# EAGLE library part 68711814022 (library Eagle_FPC_CONNECTOR_AND_FFC_CAB (rev18c))
WR-FPC 0.5mm SMT ZIF Horizontal Top Contact, 18 Pins=>Code : Con_FPC_ZIF_0.50_68711814022 <http://katalog.we-online.de/media/images/eican/Con_FPC_ZIF_0.50_6871xx14022_pf2.jpg> Details see: http://katalog.we-online.de/en/em/687_1xx_140_22 Created 2014-07-09, Karrer Zheng 2014 (C) Würth Elektronik
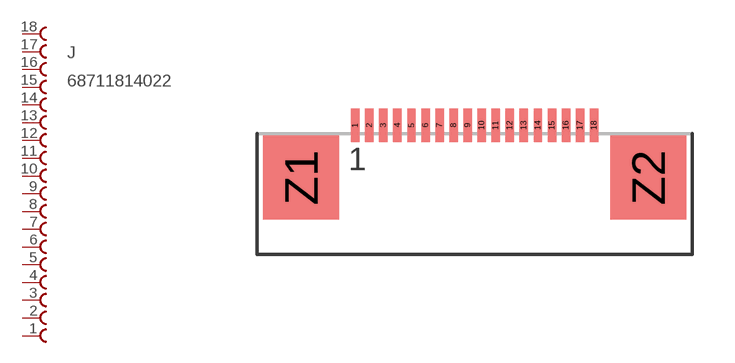
[diagram p23: symbol with the pads of 68711814022; footprint 68711814022]

Designator prefix J

## 68711814022  [68711814022]
1  18  pas
2  17  pas
3  16  pas
4  15  pas
5  14  pas
6  13  pas
7  12  pas
8  11  pas
9  10  pas
10  9  pas
11  8  pas
12  7  pas
13  6  pas
14  5  pas
15  4  pas
16  3  pas
17  2  pas
18  1  pas

## Footprint 68711814022 (pad centres in mm)
WR-FPC 0.5mm SMT ZIF Horizontal Top Contact, 18 Pins
smd 0.3 x 1.2: 1 -4.75,1.86; 2 -4.25,1.86; 3 -3.75,1.86; 4 -3.25,1.86; 5 -2.75,1.86; 6 -2.25,1.86; 7 -1.75,1.86; 8 -1.25,1.86; 9 -0.75,1.86; 10 -0.25,1.86; 11 0.25,1.86; 12 0.75,1.86; 13 1.25,1.86; 14 1.75,1.86; 15 2.25,1.86; 16 2.75,1.86; 17 3.25,1.86; 18 3.75,1.86
smd 2.7 x 3: Z1 -6.68,0; Z2 5.68,0